# Altium integrated library QBL8RGB60D0-2897.IntLib: 1 symbol
Pins are listed as number, name and electrical type; pins without a type are passive.

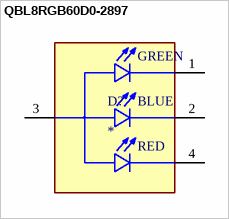
[diagram p0: symbol QBL8RGB60D0-2897]

## QBL8RGB60D0-2897
designator D?
Red, Green, Blue (RGB) 624nm Red, 525nm Green, 470nm Blue LED Indication - Discrete 2V Red, 3.2V Green, 3.2V Blue Radial; MF: QT Brightek (QTB); MP: QBL8RGB60D0-2897; SnapEDA_Link: https://www.snapeda.com/parts/QBL8RGB60D0-2897/QT/view-part/?ref=snap; Package: Radial QT Brightek (QTB); Value: *; Check_prices: https://www.snapeda.com/parts/QBL8RGB60D0-2897/QT/view-part/?ref=eda
footprint LED_QBL8RGB60D0-2897
pins: 1 CATHODE_GREEN, 2 CATHODE_BLUE, 3 COMMON_ANODE, 4 CATHODE_RED
text: GREEN; BLUE; RED